# EAGLE library part FTS-103-01-L-DV-TR (library FTS-103-01-L-DV-TR)
6 Position, Micro Low Profile Header Strip, Double-Row, Vertical Surface Mount Source: Datasheet <http://suddendocs.samtec.com/prints/fts-1xx-xx-xx-xx-xx-mkt.pdf>
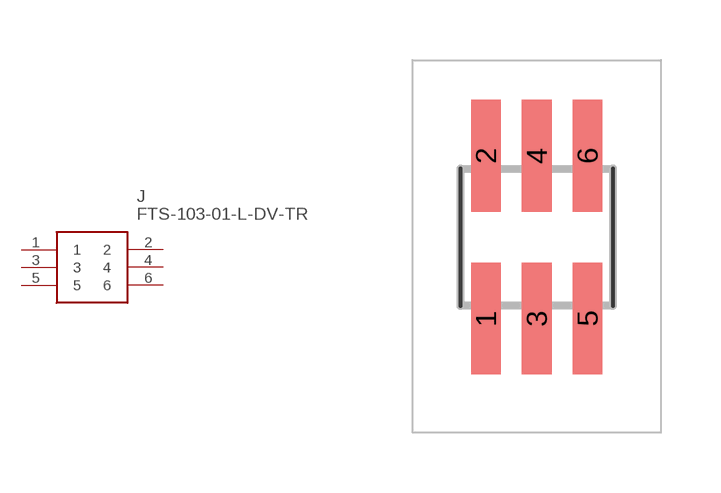
[diagram p0: symbol with the pads of FTS-103-YY-XX-DV-TR; footprint FTS-103-YY-XX-DV-TR]

Designator prefix J

## FTS-103-01-L-DV-TR (Arrow_Part_Number: FTS-103-01-L-DV-TR; Arrow_Price-Stock: https://www.arrow.com/en/products/fts-103-01-l-dv-tr/samtec; Description: 6 Position, Micro Low Profile Header Strip, Double-Row, Vertical Surface Mount; Height: mm; Manufacturer_Name: SAMTEC; Manufacturer_Part_Number: FTS-103-01-L-DV-TR; Mouser_Part_Number: 200-FTS10301LDVTR; Mouser_Price-Stock: https://www.mouser.co.uk/ProductDetail/Samtec/FTS-103-01-L-DV-TR?qs=0lQeLiL1qyZdQ0modVbSfg%3D%3D)  [FTS-103-YY-XX-DV-TR]
1  1
2  2
3  3
4  4
5  5
6  6

## Footprint FTS-103-YY-XX-DV-TR (pad centres in mm)
FTS-103-YY-XX-DV-TR
smd 0.74 x 2.79: 1 -1.27,-2.035; 2 -1.27,2.035; 3 0,-2.035; 4 0,2.035; 5 1.27,-2.035; 6 1.27,2.035